# EAGLE library part REGULATOR:ADP3000(BUCK,BOOST,INVERT) (library QuantumOptics)
ADP3000AR, T.I., DC-DC converter, buck/boost/invert, Vin=2-30V, <500mA, 400KHz. Use SOIC-8 only.
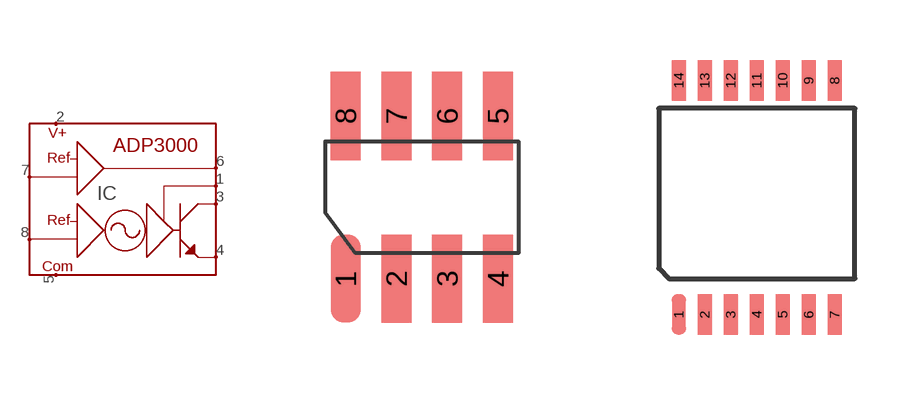
[diagram p34: symbol with the pads of SOIC-8; footprints SOIC-8, TSSOP-14]

Designator prefix IC

## REGULATOR:ADP3000(BUCK,BOOST,INVERT)  [SOIC-8]
1  I-LIM  in
2  V-IN
3  SW-C
4  SW-E
5  COM
6  AO  out
7  SET  in
8  FB  in

## REGULATOR:ADP3000(BUCK,BOOST,INVERT)ARU(TSSPO14)  [TSSOP-14]
3  I-LIM  in
4  V-IN
5  SW-C
7  SW-E
8  COM
11  AO  out
12  SET  in
13  FB  in

## Footprint SOIC-8 (pad centres in mm)
SOIC-8 (AKA SO-8), pads on 0.050" grid.
smd 0.75 x 2.2: 1 -1.27,-2.032; 2 0,-2.032; 3 1.27,-2.032; 4 2.54,-2.032; 5 2.54,2.032; 6 1.27,2.032; 7 0,2.032; 8 -1.27,2.032

## Footprint TSSOP-14 (pad centres in mm)
TSSOP-14, pins 0.65mm c-c spacing, nominal 6.4mm rows.
smd 0.356 x 1.016: 1 0,-2.925; 2 0.65,-2.925; 3 1.3,-2.925; 4 1.95,-2.925; 5 2.6,-2.925; 6 3.25,-2.925; 7 3.9,-2.925; 8 3.9,2.925; 9 3.25,2.925; 10 2.6,2.925; 11 1.95,2.925; 12 1.3,2.925; 13 0.65,2.925; 14 0,2.925